# EAGLE library part 74*665 (library 74ttl-din-rp)
Octal bus TRANSCEIVER, parity
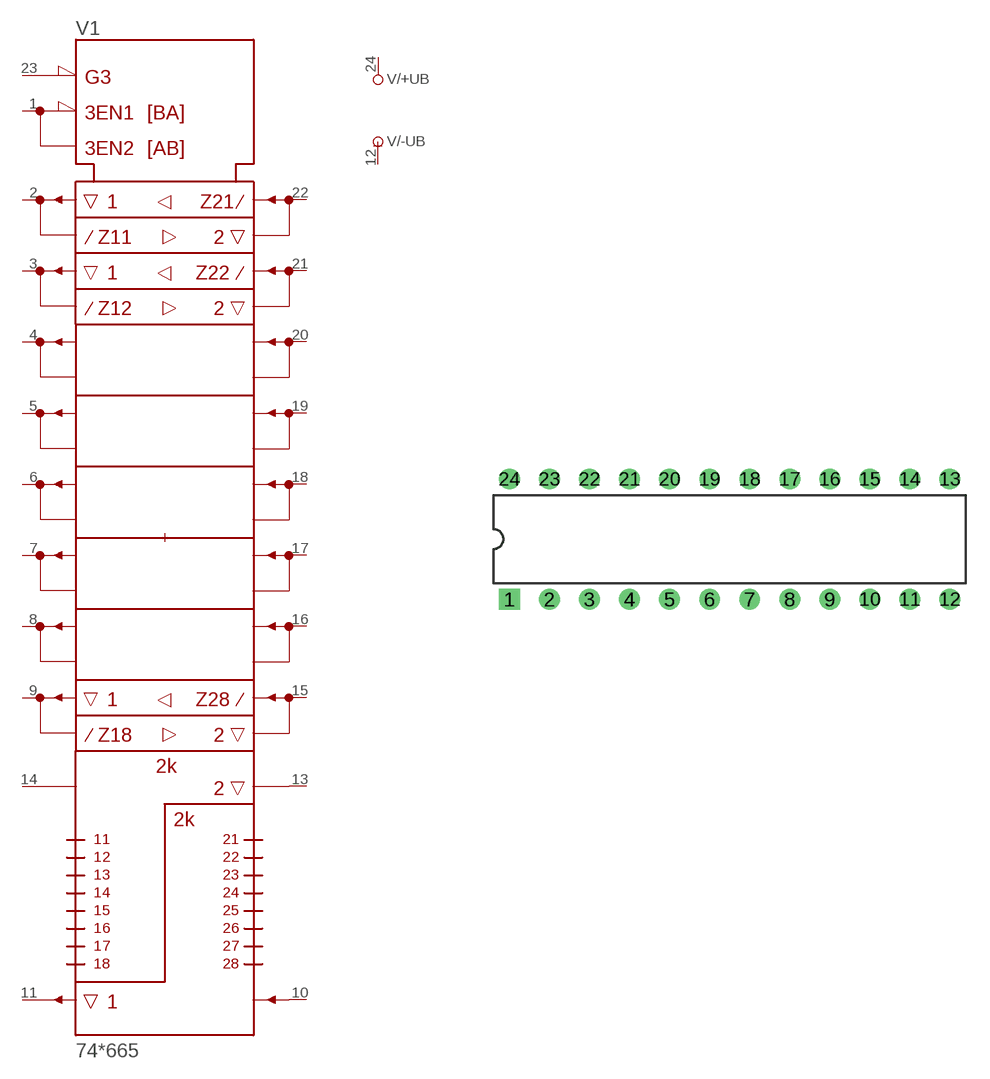
[diagram p140: symbol with the pads of DIL24-3; footprint DIL24-3]

Designator prefix V; gates /+UB=+UB /-UB=-UB 1=665

## 74665N  [DIL24-3]
1  1:DIR  in
2  1:A1
3  1:A2
4  1:A3
5  1:A4
6  1:A5
7  1:A6
8  1:A7
9  1:A8
10  1:BPI  in
11  1:BPO  hiz
12  /-UB:-UB  pwr
13  1:APO  hiz
14  1:API  in
15  1:B8
16  1:B7
17  1:B6
18  1:B5
19  1:B4
20  1:B3
21  1:B2
22  1:B1
23  1:!G  in
24  /+UB:+UB  pwr

## Footprint DIL24-3 (pad centres in mm)
Dual In Line Package 0.3 inch
drill 0.813 square: 1 -13.97,-3.81
drill 0.813: 2 -11.43,-3.81; 3 -8.89,-3.81; 4 -6.35,-3.81; 5 -3.81,-3.81; 6 -1.27,-3.81; 7 1.27,-3.81; 8 3.81,-3.81; 9 6.35,-3.81; 10 8.89,-3.81; 11 11.43,-3.81; 12 13.97,-3.81; 13 13.97,3.81; 14 11.43,3.81; 15 8.89,3.81; 16 6.35,3.81; 17 3.81,3.81; 18 1.27,3.81; 19 -1.27,3.81; 20 -3.81,3.81; 21 -6.35,3.81; 22 -8.89,3.81; 23 -11.43,3.81; 24 -13.97,3.81